# Altium schematic symbol library IC_Broadcom_ACPL-C87A-000E_eec.SchLib: 1 symbol
Pins are listed as number, name and electrical type; pins without a type are passive.

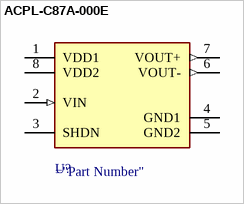
[diagram p0: symbol ACPL-C87A-000E]

## ACPL-C87A-000E
designator U?  (value not drawn)
pins: 1 VDD1 (power), 2 VIN (in), 3 SHDN, 4 GND1 (power), 5 GND2 (power), 6 VOUT- (out), 7 VOUT+ (out), 8 VDD2 (power)